# Altium integrated library ElectricCanary_FXCore-Module.IntLib: 1 symbol
Pins are listed as number, name and electrical type; pins without a type are passive.

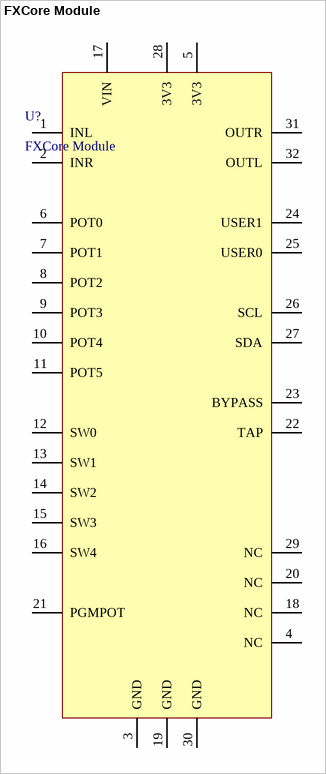
[diagram p0: symbol FXCore Module]

## FXCore Module
designator U?
Electric Canary FXCore Module Stereo Audio DSP; Manufacturer: Electric Canary
footprint FXCore_Module
pins: 1 INL, 2 INR, 3 GND, 4 NC, 5 3V3, 6 POT0, 7 POT1, 8 POT2, 9 POT3, 10 POT4, 11 POT5, 12 SW0, 13 SW1, 14 SW2, 15 SW3, 16 SW4, 17 VIN, 18 NC, 19 GND, 20 NC, 21 PGMPOT, 22 TAP, 23 BYPASS, 24 USER1, 25 USER0, 26 SCL, 27 SDA, 28 3V3, 29 NC, 30 GND, 31 OUTR, 32 OUTL